# Altium footprint library Allegro Microsystems.PcbLib: 1 footprints
Each footprint in its own frame and in the unit in brackets; x right, y up, seen from the top. Pads: shape width x height; smd on the part's side, far side on the other; paste and mask are expansions set on the pad; w line width, h text height; cw(c..) or ccw(c..) is an arc to the next point about the centre after c.
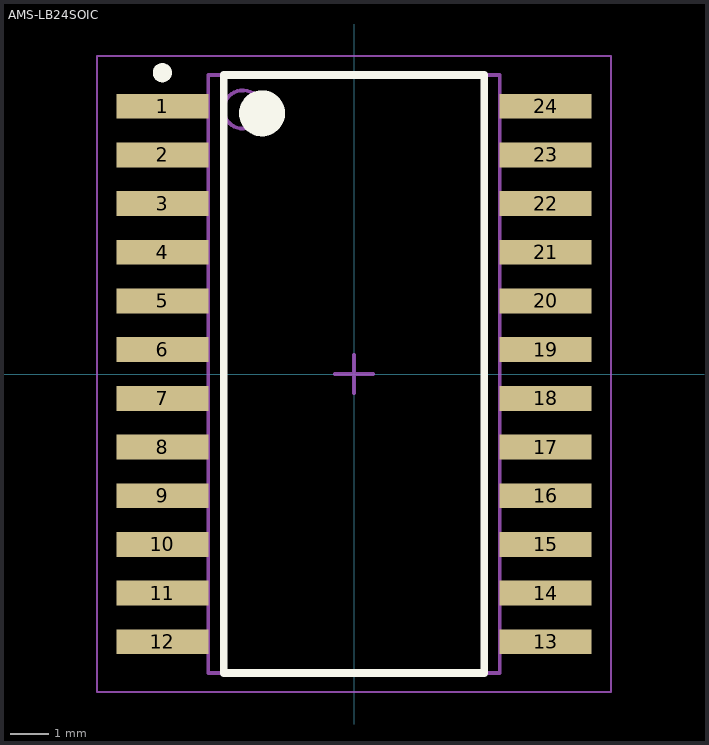
[diagram p0: the footprint, top view; thin cyan lines are the x and y axes]

## AMS-LB24SOIC [mm] "SOP, 24-Leads, Body 15.40x7.50mm, Pitch 1.27mm, IPC Low Density"
height 2.65
pads (24):
  rect 2.4x0.65 smd: 1(-5,6.985) 2(-5,5.715) 3(-5,4.445) 4(-5,3.175) 5(-5,1.905) 6(-5,0.635) 7(-5,-0.635) 8(-5,-1.905) 9(-5,-3.175) 10(-5,-4.445) 11(-5,-5.715) 12(-5,-6.985) 13(5,-6.985) 14(5,-5.715) 15(5,-4.445) 16(5,-3.175) 17(5,-1.905) 18(5,-0.635) 19(5,0.635) 20(5,1.905) 21(5,3.175) 22(5,4.445) 23(5,5.715) 24(5,6.985)
Top Overlay:
  circle w0.6: c-2.4,6.8 r0.3
  circle w0.25: c-5,7.86 r0.125
  lines w0.2: -3.4,-7.8 3.4,-7.8 3.4,7.8 -3.4,7.8 -3.4,-7.8
Mechanical 13:
  circle w0.1: c-2.9,6.9 r0.5
  lines w0.1: -3.8,-7.8 3.8,-7.8 3.8,7.8 -3.8,7.8 -3.8,-7.8
Mechanical 15:
  lines w0.05: -6.7,-8.3 6.7,-8.3 6.7,8.3 -6.7,8.3 -6.7,-8.3
  lines w0.1: -0.5,0 0.5,0 ; 0,-0.5 0,0.5
3D body "AMS-LB24SOIC.step": height 2.65, standoff 0, extent -5.15,-7.8 5.15,7.8